# Altium footprint library LM2576_BuckConverter.PcbLib: 8 footprints
Each footprint in its own frame and in the unit in brackets; x right, y up, seen from the top. Pads: shape width x height; smd on the part's side, far side on the other; paste and mask are expansions set on the pad; w line width, h text height; cw(c..) or ccw(c..) is an arc to the next point about the centre after c.
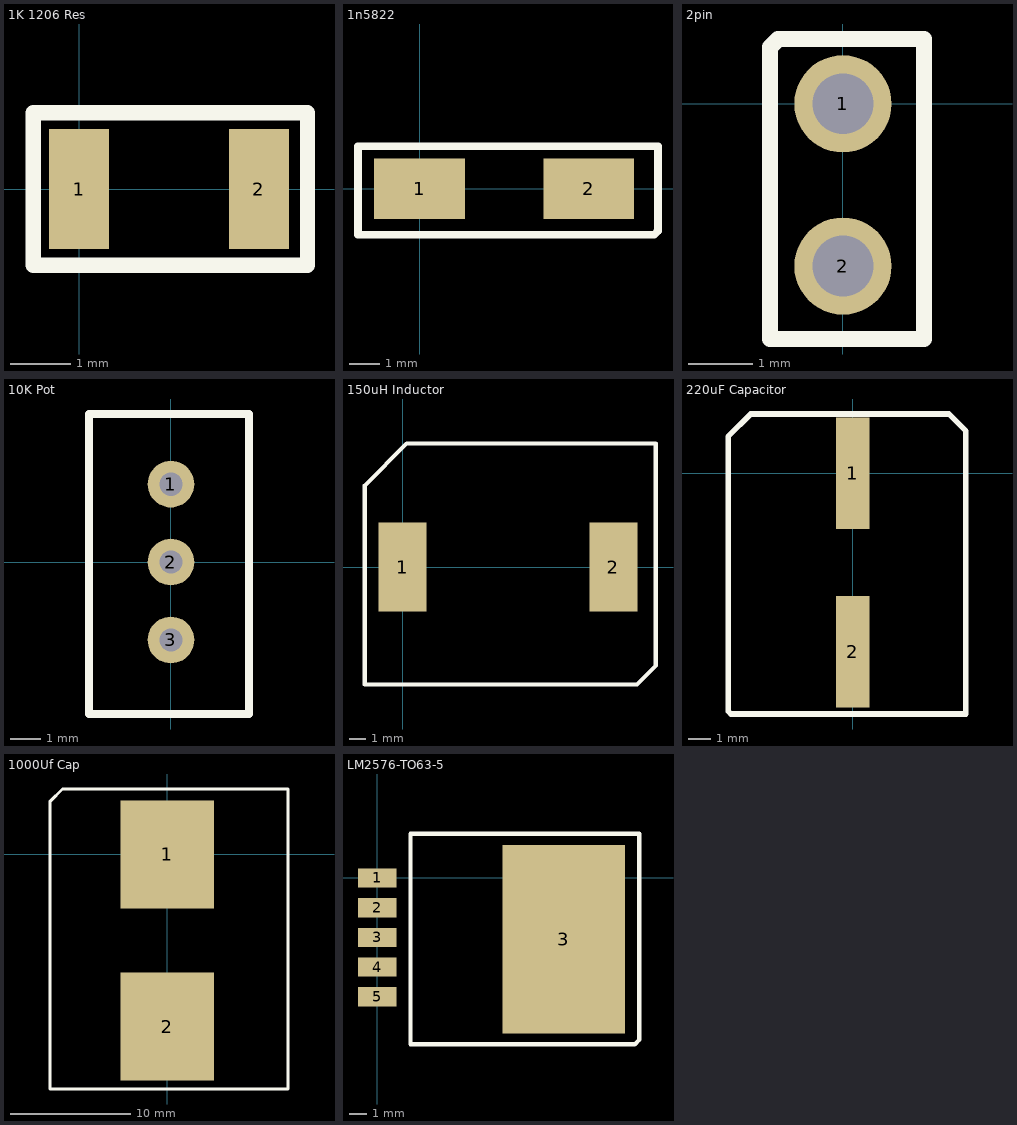
[diagram p0: the footprints below, top view; thin cyan lines are the x and y axes]

## 1K 1206 Res [mm]
pads (2):
  rect 1x2 smd: 1(0,0) 2(3,0)
Top Overlay:
  lines w0.254: -0.762,-1.27 3.81,-1.27 3.81,1.27 -0.762,1.27 -0.762,-1.27
3D body "User Library-R SMD 1206.step": height 0.56, standoff 0.01, extent -0.043,-0.8 3.157,0.8

## 1n5822 [mm]
pads (2):
  rect 3x2 smd: 1(0,0) 2(5.588,0)
Top Overlay:
  lines w0.254: -2.032,-1.524 -2.032,1.397 -1.778,1.397 7.874,1.397 7.874,-1.397 7.747,-1.524 -2.032,-1.524
3D body "User Library-DO-214AC(SMA).step": height 2.3, standoff 0.01, extent -0.076,-1.397 5.41,1.397

## 2pin [mil]
pads (2):
  round 60 hole 37.4: 1(0,0) 2(0,-100)
Top Overlay:
  lines w10: -45,-145 -45,35 -40,40 50,40 50,-145 -45,-145
3D body "User Library-1x2 TH Pitch 2_54mm.step": height 373.85, standoff -125.98, extent -50,-150 50,50

## 10K Pot [mil]
pads (3):
  round 60 hole 30: 1(0,100) 2(0,0) 3(0,-100)
Top Overlay:
  lines w10: -105,-195 100,-195 100,190 -105,190 -105,125 -105,-195
3D body "User Library-3296W.step": height 455.22, standoff -62.49, extent -94.49,-190 94.49,185.19

## 150uH Inductor [mm]
pads (2):
  rect 2.9x5.4 smd: 1(0,0) 2(12.8,0)
Top Overlay:
  lines w0.254: -2.286,-7.112 13.081,-7.112 14.224,-7.112 15.367,-5.969 15.367,7.493 0.254,7.493 -2.286,4.953 -2.286,2.921 -2.286,-7.112
3D body "69079.stp": height 7.51, standoff 0.01, extent 0.635,-5.869 13.135,6.631

## 220uF Capacitor [mm]
pads (2):
  rect 1.5x5 smd: 1(0,0) 2(0,-8.001)
Top Overlay:
  lines w0.254: -5.588,-10.668 -5.461,-10.795 5.08,-10.795 5.08,1.905 4.318,2.667 -0.254,2.667 -4.572,2.667 -5.588,1.651 -5.588,-10.668
3D body "User Library-CC1010.step": height 10.41, standoff 0, extent -5.193,-9.525 5.207,1.475

## 1000Uf Cap [mm]
pads (2):
  rect 7.8x9 smd: 1(0,0) 2(0,-14.351)
Top Overlay:
  lines w0.254: -9.779,-19.558 9.652,-19.558 10.033,-19.558 10.033,5.461 -8.763,5.461 -9.779,4.445 -9.779,1.397 -9.779,-19.304 -9.779,-19.558
3D body "User Library-Vishay 146 CTI 1616.STEP": height 17.51, standoff 0, extent -7.919,-16.256 8.681,2.344

## LM2576-TO63-5 [mm] "D2-PAK, 6-Pads, Body 7,42x8,51mm (max), IPC Medium Density"
height 4.57
pads (6):
  rect 2.2x1.1 smd: 1(0,0) 2(0,-1.7) 3(0,-3.4) 4(0,-5.1) 5(0,-6.8)
  rect 7x10.8 smd: 3(10.67,-3.5)
Top Overlay:
  lines w0.254: 1.905,-9.525 1.905,2.54 14.986,2.54 14.986,-9.271 14.732,-9.525 1.905,-9.525
3D body "User Library-TO-263BA-1.step": height 4.38, standoff 0, extent -0.33,-8.541 13.716,1.683